# EAGLE library part ADS7818P (library ADS7818P)
Check prices <https://pricing.snapeda.com/parts/ADS7818P/Texas%20Instruments/view-part?ref=eda>
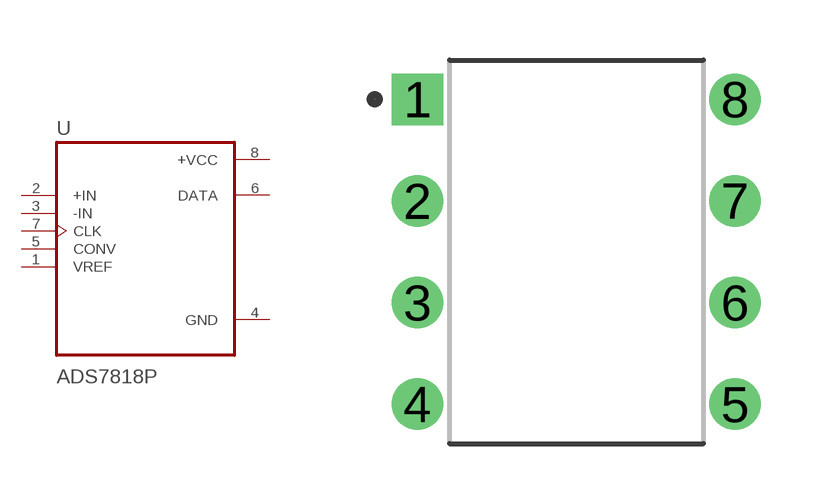
[diagram p0: symbol with the pads of DIP794W45P254L959H508Q8; footprint DIP794W45P254L959H508Q8]

Designator prefix U

## ADS7818P (Availability: Warning; Description: 12-Bit High Speed Low Power Sampling Analog-to-Digital Converter; MF: Texas Instruments; MP: ADS7818P; Package: PDIP-8 Texas; Price: None; Purchase-URL: https://pricing.snapeda.com/search/part/ADS7818P/?ref=eda)  [DIP794W45P254L959H508Q8]
1  VREF  in
2  +IN  in
3  -IN  in
4  GND  pwr
5  CONV  in
6  DATA  out
7  CLK  in
8  +VCC  pwr

## Footprint DIP794W45P254L959H508Q8 (pad centres in mm)
drill 0.78 pad 1.13 square: 1 -3.97,3.81
drill 0.78 pad 1.13: 2 -3.97,1.27; 3 -3.97,-1.27; 4 -3.97,-3.81; 5 3.97,-3.81; 6 3.97,-1.27; 7 3.97,1.27; 8 3.97,3.81